# EAGLE library part ARDUINO_NANO (library ARDUINO_NANO)
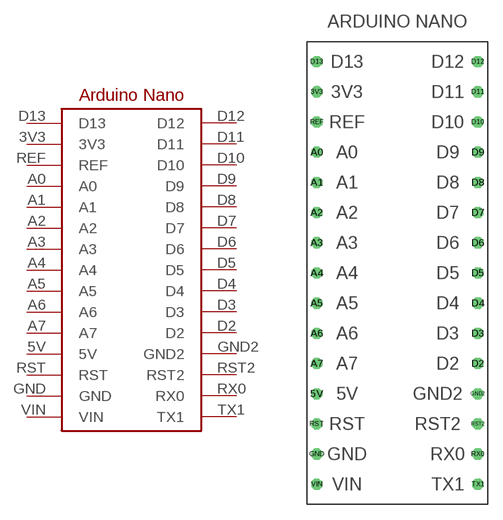
[diagram p0: symbol with the pads of ARDUINO_NANO; footprint ARDUINO_NANO]

Designator prefix -

## ARDUINO_NANO  [ARDUINO_NANO]
3V3  3V3
5V  5V
A0  A0
A1  A1
A2  A2
A3  A3
A4  A4
A5  A5
A6  A6
A7  A7
D2  D2
D3  D3
D4  D4
D5  D5
D6  D6
D7  D7
D8  D8
D9  D9
D10  D10
D11  D11
D12  D12
D13  D13
GND  GND
GND2  GND2
REF  REF
RST  RST
RST2  RST2
RX0  RX0
TX1  TX1
VIN  VIN

## Footprint ARDUINO_NANO (pad centres in mm)
drill 0.6 octagon: 3V3 1,39; 5V 1,9; A0 1,33; A1 1,30; A2 1,27; A3 1,24; A4 1,21; A5 1,18; A6 1,15; A7 1,12; D2 17,12; D3 17,15; D4 17,18; D5 17,21; D6 17,24; D7 17,27; D8 17,30; D9 17,33; D10 17,36; D11 17,39; D12 17,42; D13 1,42; GND 1,3; GND2 17,9; REF 1,36; RST 1,6; RST2 17,6; RX0 17,3; TX1 17,0; VIN 1,0